# Altium footprint library SSOP.PcbLib: 2 footprints
Each footprint in its own frame and in the unit in brackets; x right, y up, seen from the top. Pads: shape width x height; smd on the part's side, far side on the other; paste and mask are expansions set on the pad; w line width, h text height; cw(c..) or ccw(c..) is an arc to the next point about the centre after c.
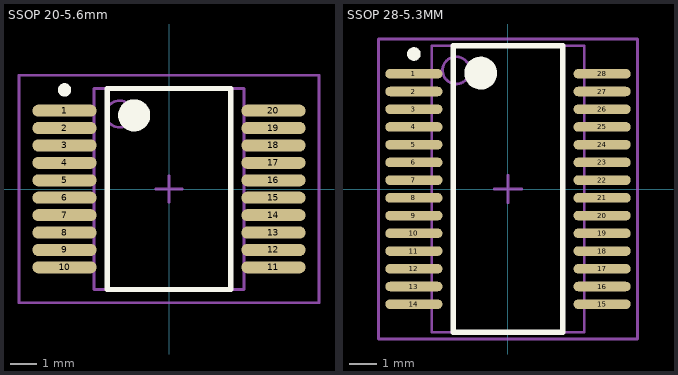
[diagram p0: the footprints below, top view; thin cyan lines are the x and y axes]

## SSOP 20-5.6mm [mm] "SOP, 20-Leads, Body 7.5x5.6mm (max), Pitch 0.65mm, IPC Low Density"
height 2
pads (20):
  oval 2.4x0.45 smd: 1(-3.9,2.925) 2(-3.9,2.275) 3(-3.9,1.625) 4(-3.9,0.975) 5(-3.9,0.325) 6(-3.9,-0.325) 7(-3.9,-0.975) 8(-3.9,-1.625) 9(-3.9,-2.275) 10(-3.9,-2.925) 11(3.9,-2.925) 12(3.9,-2.275) 13(3.9,-1.625) 14(3.9,-0.975) 15(3.9,-0.325) 16(3.9,0.325) 17(3.9,0.975) 18(3.9,1.625) 19(3.9,2.275) 20(3.9,2.925)
Top Overlay:
  circle w0.6: c-1.3,2.75 r0.3
  circle w0.25: c-3.9,3.7 r0.125
  lines w0.2: -2.3,-3.75 2.3,-3.75 2.3,3.75 -2.3,3.75 -2.3,-3.75
Mechanical 13:
  circle w0.1: c-1.85,2.8 r0.5
  lines w0.1: -2.8,-3.75 2.8,-3.75 2.8,3.75 -2.8,3.75 -2.8,-3.75
Mechanical 15:
  lines w0.1: -0.5,0 0.5,0 ; 0,-0.5 0,0.5 ; -5.6,-4.25 5.6,-4.25 5.6,4.25 -5.6,4.25 -5.6,-4.25
3D body "User Library-SSOP-20.STEP": height 1.9, standoff 0, extent -3.9,-3.6 3.9,3.6

## SSOP 28-5.3MM [mm] "SOP, 28-Leads, Body 10.2x5.3mm, Pitch 0.65mm, IPC Medium Density"
height 2
pads (28):
  oval 2.1x0.35 smd: 1(-3.45,4.225) 2(-3.45,3.575) 3(-3.45,2.925) 4(-3.45,2.275) 5(-3.45,1.625) 6(-3.45,0.975) 7(-3.45,0.325) 8(-3.45,-0.325) 9(-3.45,-0.975) 10(-3.45,-1.625) 11(-3.45,-2.275) 12(-3.45,-2.925) 13(-3.45,-3.575) 14(-3.45,-4.225) 15(3.45,-4.225) 16(3.45,-3.575) 17(3.45,-2.925) 18(3.45,-2.275) 19(3.45,-1.625) 20(3.45,-0.975) 21(3.45,-0.325) 22(3.45,0.325) 23(3.45,0.975) 24(3.45,1.625) 25(3.45,2.275) 26(3.45,2.925) 27(3.45,3.575) 28(3.45,4.225)
Top Overlay:
  circle w0.25: c-3.45,4.95 r0.125
  circle w0.6: c-1,4.25 r0.3
  lines w0.2: -2,-5.25 -2,5.25 2,5.25 2,-5.25 -2,-5.25
Mechanical 13:
  circle w0.1: c-1.9,4.35 r0.5
  lines w0.1: -2.8,-5.25 -2.8,5.25 2.8,5.25 2.8,-5.25 -2.8,-5.25
Mechanical 15:
  lines w0.1: -0.5,0 0.5,0 ; 0,-0.5 0,0.5 ; -4.75,-5.5 -4.75,5.5 4.75,5.5 4.75,-5.5 -4.75,-5.5
3D body "User Library-SSOP-28-1.step": height 2.15, standoff 0, extent -3.878,-5.165 3.878,5.165